# Altium schematic symbol library STM32F101.SchLib: 22 symbols
Pins are listed as number, name and electrical type; pins without a type are passive.

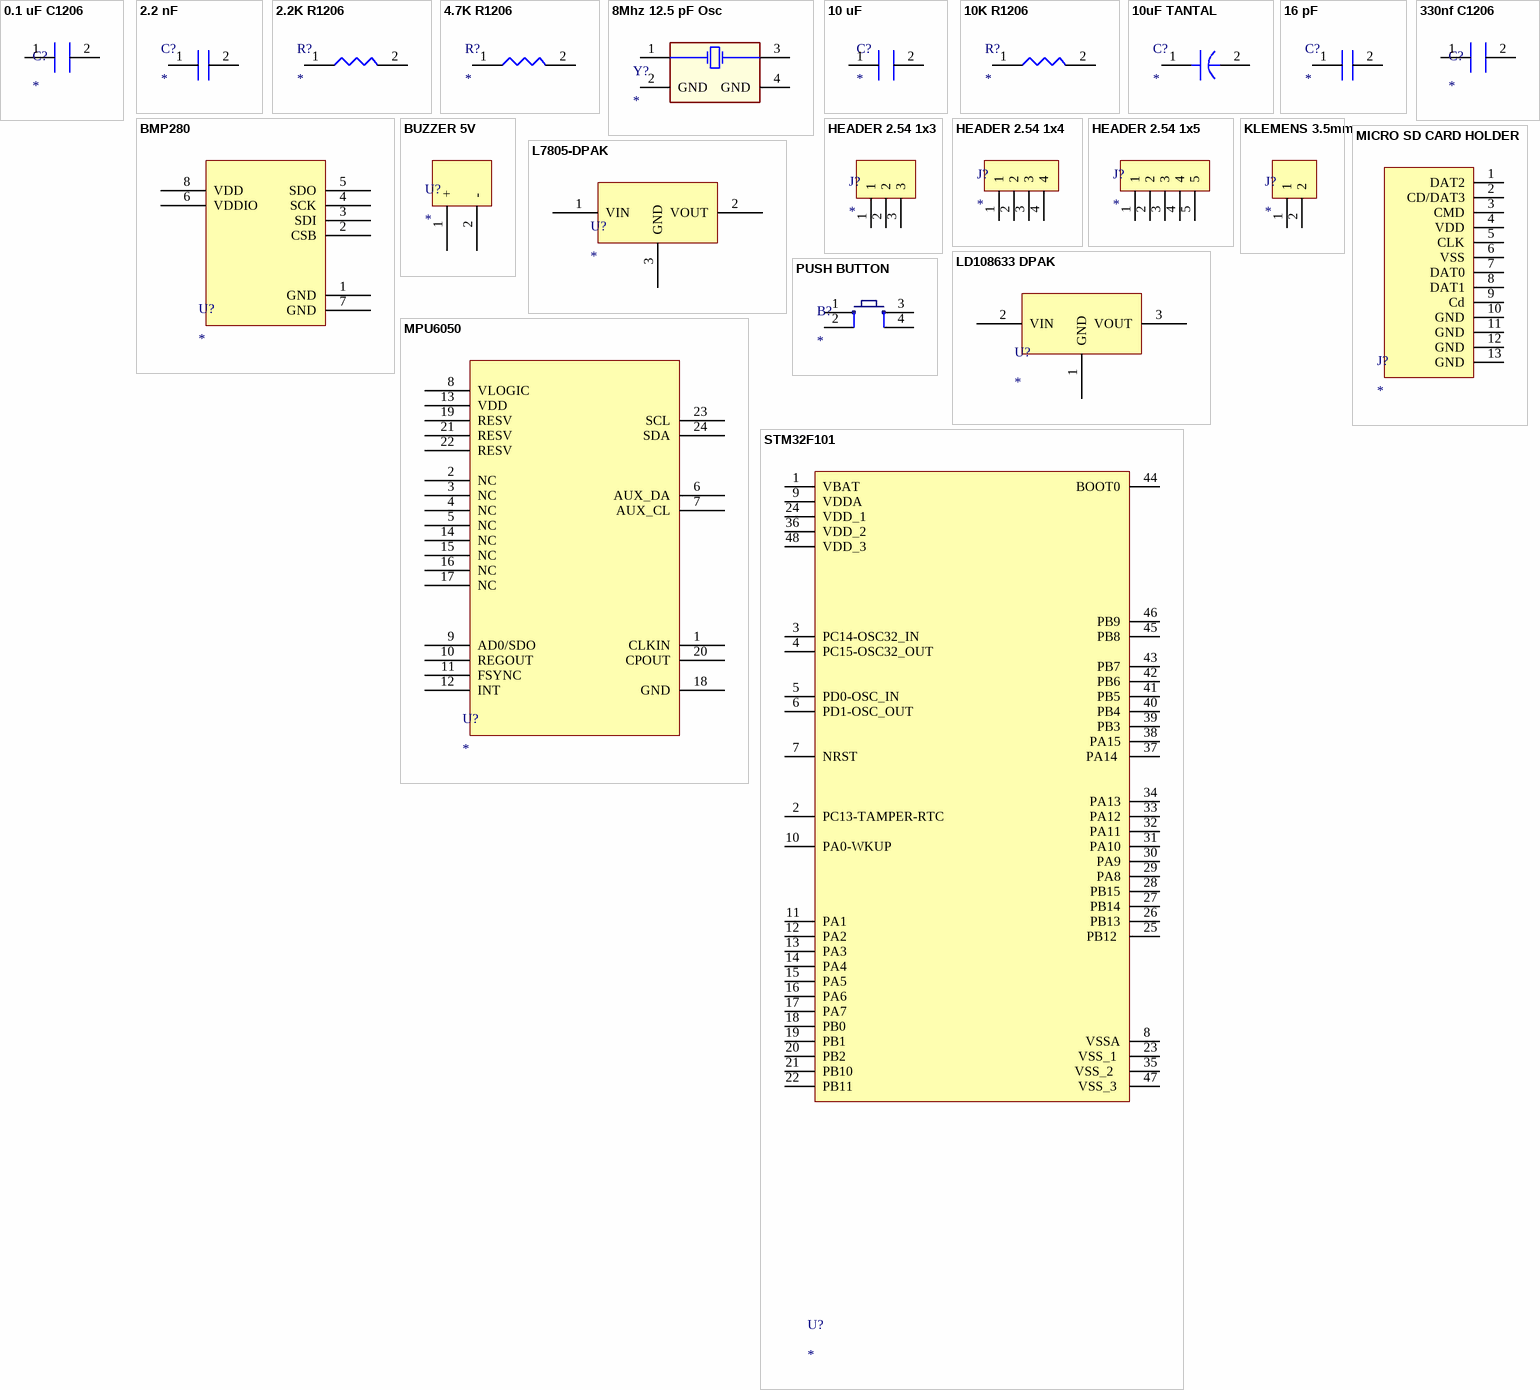
[diagram p0: symbols 0.1 uF C1206 to STM32F101]

## 0.1 uF C1206
designator C?
0.1 uF
footprint C1206
pins: 1, 2

## 2.2 nF
designator C?
footprint C1206
pins: 1, 2

## 2.2K R1206
designator R?
footprint 1206 RESISTOR
pins: 1, 2

## 4.7K R1206
designator R?
footprint 1206 RESISTOR
pins: 1, 2

## 8Mhz 12.5 pF Osc
designator Y?
footprint 8 Mhz Osc
pins: 1 (power) "Regulator Input Supply. Bypass IN to GND with a 1 uF or greater capacitor.", 2 GND (power) "Ground.", 3 "Enable Input. Drive EN high to turn on the regulator; drive it low to turn off the regulator. For automatic startup, connect EN to IN.", 4 GND "Connect a 1 nF or greater capacitor (10 nF is recommended) between BYP and GND to reduce the internal reference noise for low noise applications."

## 10 uF
designator C?
footprint C1206
pins: 1, 2

## 10K R1206
designator R?
footprint 1206 RESISTOR
pins: 1, 2

## 10uF TANTAL
designator C?
footprint C1206 TANTAL
pins: 1, 2

## 16 pF
designator C?
footprint C1206
pins: 1, 2

## 330nf C1206
designator C?
330 nF
footprint C1206
pins: 1, 2

## BMP280
designator U?
Pressure Sensor
footprint BMP280
pins: 1 GND, 2 CSB, 3 SDI, 4 SCK, 5 SDO, 6 VDDIO, 7 GND, 8 VDD

## BUZZER 5V
designator U?
footprint BUZZER 5V
pins: 1 +, 2 -

## HEADER 2.54 1x3
designator J?
footprint HEADER 2.54 1x3
pins: 1, 2, 3

## HEADER 2.54 1x4
designator J?
footprint HEADER 2.54 1x4
pins: 1, 2, 3, 4

## HEADER 2.54 1x5
designator J?
footprint HEADER 2.54 1x5
pins: 1, 2, 3, 4, 5

## KLEMENS 3.5mm
designator J?
footprint KLEMENS 3.5mm
pins: 1, 2

## L7805-DPAK
designator U?
L7805 5V REGULATOR
footprint DPAK228P972X230-3N (D-PAK, 3-Pads, Body 6,40x6,56mm (max), IPC Medium Density)
pins: 1 VIN, 2 VOUT, 3 GND

## LD108633 DPAK
designator U?
LD108633 3.3V REGULATOR
footprint DPAK228P972X230-3N (D-PAK, 3-Pads, Body 6,40x6,56mm (max), IPC Medium Density)
pins: 1 GND, 2 VIN, 3 VOUT

## MICRO SD CARD HOLDER
designator J?
footprint MICRO SD CARD HOLDER
pins: 1 DAT2, 2 CD/DAT3, 3 CMD, 4 VDD, 5 CLK, 6 VSS, 7 DAT0, 8 DAT1, 9 Cd, 10 GND, 11 GND, 12 GND, 13 GND

## MPU6050
designator U?
MPU6050 GYRO
footprint QFN50P400X400X90_HS-25N (QFN, 24-Leads, Body 4,00x4,00mm, Pitch 0,50mm, Thermal Pad 2,70x2,60mm, IPC Medium Density)
pins: 1 CLKIN, 2 NC, 3 NC, 4 NC, 5 NC, 6 AUX_DA, 7 AUX_CL, 8 VLOGIC, 9 AD0/SDO, 10 REGOUT, 11 FSYNC, 12 INT, 13 VDD, 14 NC, 15 NC, 16 NC, 17 NC, 18 GND, 19 RESV, 20 CPOUT, 21 RESV, 22 RESV, 23 SCL, 24 SDA

## PUSH BUTTON
designator B?
footprint PUSH BUTTON
pins: 1, 2, 3, 4

## STM32F101
designator U?
STM32F101 48 pinli Mikroişlemci
footprint LFQP48-STM32
pins: 1 VBAT, 2 PC13-TAMPER-RTC, 3 PC14-OSC32_IN, 4 PC15-OSC32_OUT, 5 PD0-OSC_IN, 6 PD1-OSC_OUT, 7 NRST, 8 VSSA, 9 VDDA, 10 PA0-WKUP, 11 PA1, 12 PA2, 13 PA3, 14 PA4, 15 PA5, 16 PA6, 17 PA7, 18 PB0, 19 PB1, 20 PB2, 21 PB10, 22 PB11, 23 VSS_1 , 24 VDD_1, 25 PB12 , 26 PB13, 27 PB14, 28 PB15, 29 PA8, 30 PA9, 31 PA10, 32 PA11, 33 PA12, 34 PA13, 35 VSS_2  , 36 VDD_2 , 37 PA14 , 38 PA15, 39 PB3, 40 PB4, 41 PB5, 42 PB6, 43 PB7, 44 BOOT0, 45 PB8, 46 PB9, 47 VSS_3 , 48 VDD_3 